# Altium schematic symbol library cry_HC49_S.SchLib: 1 symbol
Pins are listed as number, name and electrical type; pins without a type are passive.

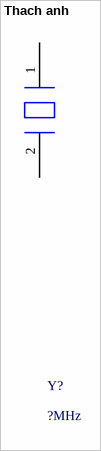
[diagram p0: symbol Thach anh]

## Thach anh
designator Y?, comment ?MHz
Crystal For all Crystal 2pin.
footprint CRY_HC_49_S
pins: 1, 2